# Altium schematic symbol library 220uF_35V_8x10mm_capacitor.SchLib: 1 symbol
Pins are listed as number, name and electrical type; pins without a type are passive.

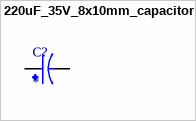
[diagram p0: symbol 220uF_35V_8x10mm_capacitor]

## 220uF_35V_8x10mm_capacitor
designator C?
220ÂµF 35V Aluminum Electrolytic Capacitors Radial, Can - SMD 80mOhm @ 100kHz 2000 Hrs @ 105Â°C; MF: Panasonic Electronic; MP: EEE-FP1V221AP; SnapEDA_Link: https://www.snapeda.com/parts/EEE-FP1V221AP/Panasonic/view-part/?ref=snap; Package: RADIAL-2 Panasonic; Value: *; Check_prices: https://www.snapeda.com/parts/EEE-FP1V221AP/Panasonic/view-part/?ref=eda
footprint 220uF_35V_8x10mm_capacitor
pins: 1, 2